# Altium schematic symbol library Switches.SchLib: 1 symbol
Pins are listed as number, name and electrical type; pins without a type are passive.

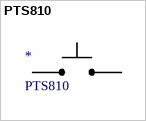
[diagram p0: symbol PTS810]

## PTS810
designator *
SWITCH TACTILE 0.05A 16V; Supplier 1: Digi-Key; Supplier Part Number 1: CKN10502CT-ND
footprint PTS810
pins: 1, 2